# Altium footprint library PcbLib1.PcbLib: 11 footprints
Each footprint in its own frame and in the unit in brackets; x right, y up, seen from the top. Pads: shape width x height; smd on the part's side, far side on the other; paste and mask are expansions set on the pad; w line width, h text height; cw(c..) or ccw(c..) is an arc to the next point about the centre after c.
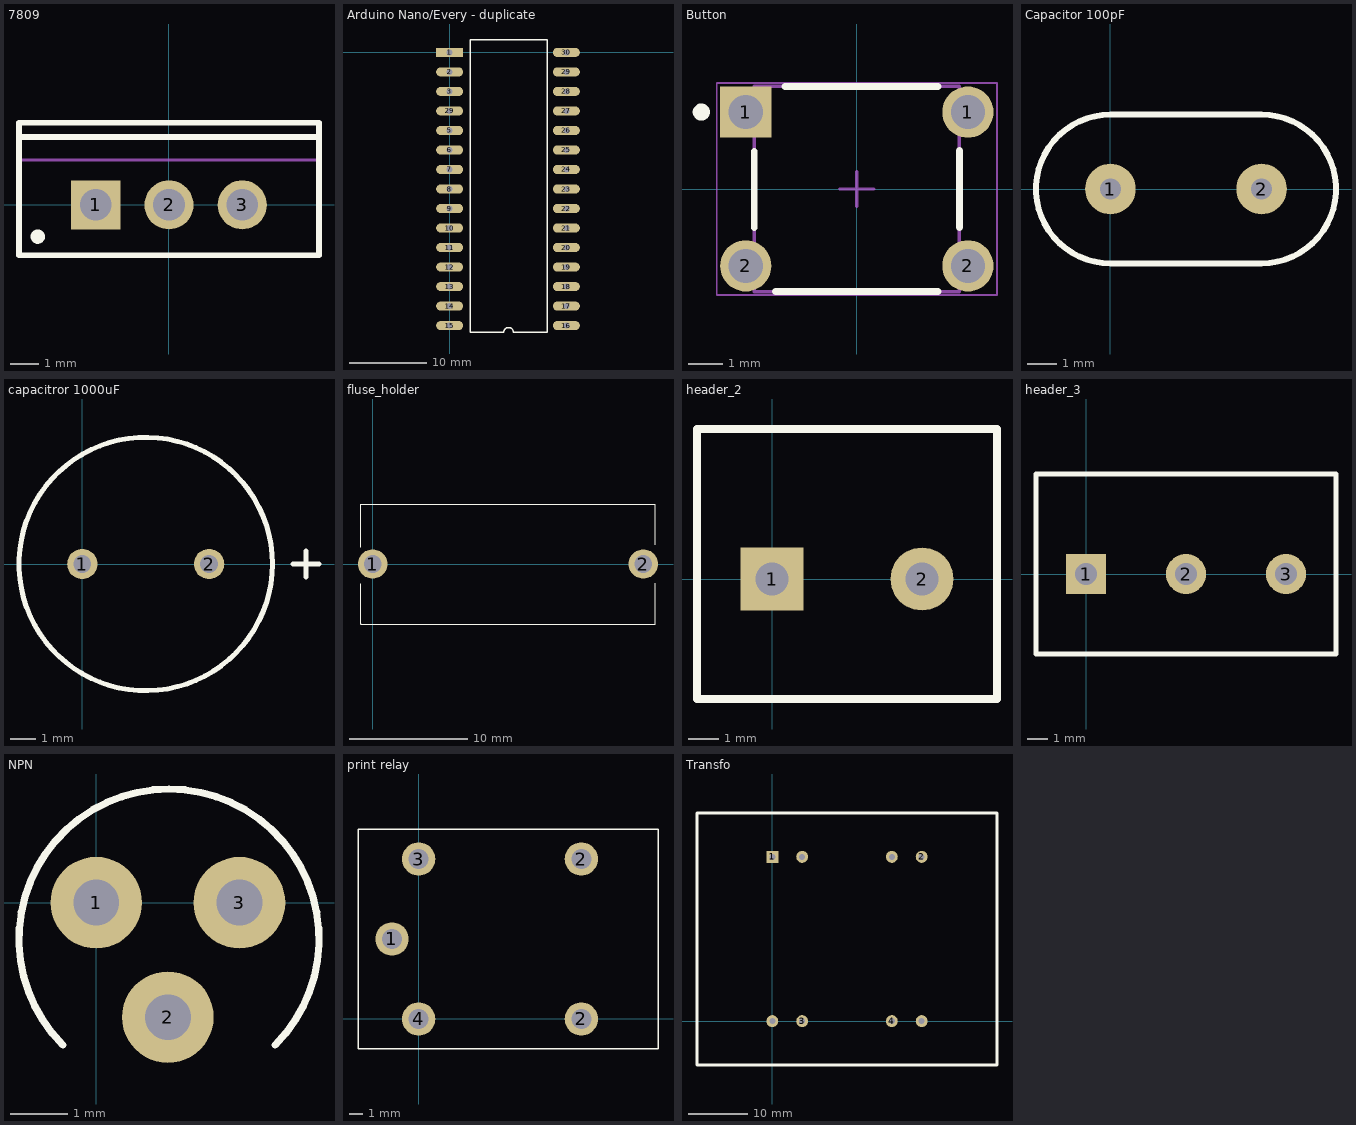
[diagram p0: the footprints below, top view; thin cyan lines are the x and y axes]

## 7809 [mm] "TO, Thru-Hole, Vertical, Heatsink Mounted; 3 In-Line Leads; Pitch 2.54 mm"
height 19.7
pads (3):
  rect 1.7x1.7 hole 1.1: 1(-2.54,0)
  round 1.7 hole 1.1: 2(0,0) 3(2.54,0)
Top Overlay:
  circle w0.25: c-4.55,-1.1 r0.125
  lines w0.2: -5.2,2.35 5.2,2.35 ; -5.2,-1.75 5.2,-1.75 5.2,2.85 -5.2,2.85 -5.2,-1.75
Mechanical 13:
  lines w0.1: -5.2,1.55 5.2,1.55 ; -5.2,-1.75 -5.2,2.85 5.2,2.85 5.2,-1.75 -5.2,-1.75
Mechanical 15:
  lines w0.1: -0.5,0 0.5,0 ; 0,-0.5 0,0.5
3D body: height 13.05, standoff 3.5, extent -5.25,-1.8 5.25,2.9
3D body: height 19.7, standoff 13.05, extent -5.199,1.551 5.199,2.849

## Arduino Nano/Every - duplicate [mm]
pads (30):
  rect 3.5x1.2 hole 0.8: 1(0,0)
  oval 3.5x1.2 hole 0.8: 2(0,-2.54) 3(0,-5.08) 5(0,-10.16) 6(0,-12.7) 7(0,-15.24) 8(0,-17.78) 9(0,-20.32) 10(0,-22.86) 11(0,-25.4) 12(0,-27.94) 13(0,-30.48) 14(0,-33.02) 15(0,-35.56) 16(15.2,-35.56) 17(15.2,-33.02) 18(15.2,-30.48) 19(15.2,-27.94) 20(15.2,-25.4) 21(15.2,-22.86) 22(15.2,-20.32) 23(15.2,-17.78) 24(15.2,-15.24) 25(15.2,-12.7) 26(15.2,-10.16) 27(15.2,-7.62) 28(15.2,-5.08) 29(0,-7.62) 29(15.2,-2.54) 30(15.2,0)
Top Overlay:
  lines w0.2: 2.667,-36.449 7.047,-36.449 cw(c7.682,-36.449) 8.317,-36.449 12.697,-36.449 12.697,1.651 2.667,1.651 2.667,-36.449

## Button [mm] "TH, 4-Leads, Body 6x6mm"
height 4.4
pads (4):
  rect 1.5x1.5 hole 1: 1(-3.25,2.25)
  round 1.5 hole 1: 1(3.25,2.25) 2(-3.25,-2.25) 2(3.25,-2.25)
Top Overlay:
  circle w0.25: c-4.55,2.25 r0.125
  lines w0.2: -3,-1.128 -3,1.1 ; -2.378,-3 2.378,-3 ; -2.1,3 2.378,3 ; 3,-1.128 3,1.128
Mechanical 13:
  lines w0.1: -3,-3 -3,3 3,3 3,-3 -3,-3
Mechanical 15:
  lines w0.05: -4.1,-3.1 -4.1,3.1 4.1,3.1 4.1,-3.1 -4.1,-3.1
  lines w0.1: -0.5,0 0.5,0 ; 0,-0.5 0,0.5
3D body: height 4.4, standoff 0, extent -2.999,-2.999 2.999,2.999

## Capacitor 100pF [mm]
pads (2):
  round 1.7 hole 0.7: 1(0,0) 2(5.08,0)
Top Overlay:
  lines w0.2: 0,-2.5 cw(c0,0) 0,2.5 5.08,2.5 cw(c5.08,0) 5.08,-2.5 0,-2.5

## capacitror 1000uF [mm]
pads (2):
  round 1.2 hole 0.7: 1(0,0) 2(5,0)
Top Overlay:
  circle w0.2: c2.5,0 r5
  lines w0.2: 8.322,0 9.338,0 ; 8.83,-0.508 8.83,0.508

## fluse_holder [mm]
pads (2):
  round 2.5 hole 1.5: 1(0,0) 2(23,0)
Top Overlay:
  lines w0.1: -1,-5.096 -0.996,-5.1 ; -1,1.413 -1,5.1 24,5.1 24,1.654 ; -0.996,-1.671 -0.996,-5.1 ; 24,-1.654 24,-5.1 -0.996,-5.1

## header_2 [mm]
pads (2):
  rect 2.1x2.1 hole 1.1 square: 1(0,0)
  round 2.1 hole 1.1: 2(5,0)
Top Overlay:
  lines w0.254: -2.5,-4 -2.5,5 7.5,5 7.5,-4 -2.5,-4

## header_3 [mm]
pads (3):
  rect 2x2 hole 1.1 square: 1(0,0)
  round 2 hole 1.1: 2(5,0) 3(10,0)
Top Overlay:
  lines w0.254: -2.5,-4 -2.5,5 12.5,5 12.5,-4 -2.5,-4

## NPN [mm]
pads (3):
  round 1.6 hole 0.8: 1(0,0) 2(1.25,-2) 3(2.5,0)
Top Overlay:
  lines w0.127: -0.581,-2.486 cw(c1.27,-0.635) 3.121,-2.486

## print relay [mm]
pads (5):
  round 2.5 hole 1.5: 1(-2,6) 2(12.2,0) 2(12.2,12) 3(0,12) 4(0,0)
Top Overlay:
  lines w0.1: -4.55,-2.25 -4.55,14.25 17.95,14.25 17.95,-2.25 -4.55,-2.25

## Transfo [mm]
pads (8):
  rect 2x2 hole 1: 1(0,27.5)
  round 2 hole 1: 2(25,27.5) 3(5,0) 4(20,0)
  round 2 hole 1 unplated: ""(0,0) ""(5,27.5) ""(20,27.5) ""(25,0)
Top Overlay:
  lines w0.5: -12.6,-7.35 -12.6,34.85 37.6,34.85 37.6,-7.35 -12.6,-7.35